# Altium footprint library 691 253 700 0xx.PcbLib: 2 footprints
Each footprint in its own frame and in the unit in brackets; x right, y up, seen from the top. Pads: shape width x height; smd on the part's side, far side on the other; paste and mask are expansions set on the pad; w line width, h text height; cw(c..) or ccw(c..) is an arc to the next point about the centre after c.
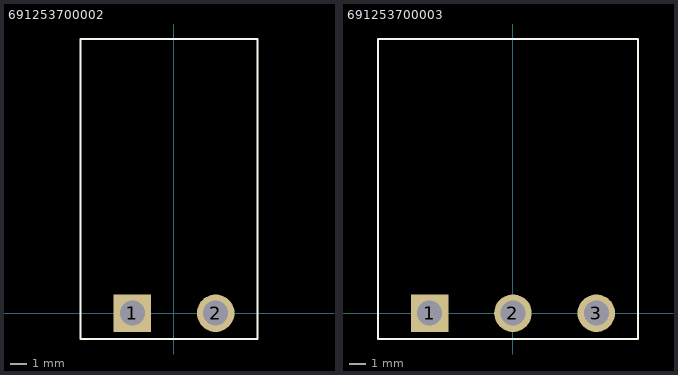
[diagram p0: the footprints below, top view; thin cyan lines are the x and y axes]

## 691253700002 [mm] "Serie 2537 - 5.00 mm _ 2 pins"
height 18
pads (2):
  rect 2.25x2.25 hole 1.5: 1(-2.5,0)
  round 2.25 hole 1.5: 2(2.5,0)
Top Overlay:
  lines w0.127: -5.6,-1.55 5,-1.55 5,16.45 -5.6,16.45 -5.6,-1.55
3D body: height 11.3, standoff -3.9, extent -5.6,-1.6 5,16.4

## 691253700003 [mm] "Serie 2537 - 5.00 mm _ 3 pins"
height 18
pads (3):
  rect 2.25x2.25 hole 1.5: 1(-5,0)
  round 2.25 hole 1.5: 2(0,0) 3(5,0)
Top Overlay:
  lines w0.127: -8.1,-1.55 -8.1,16.45 7.5,16.45 7.5,-1.55 -8.1,-1.55
3D body: height 11.3, standoff -3.9, extent -8.1,-1.6 7.5,16.4